# EAGLE library part SN74LVC2GU04DCKR (library Birdhouse)
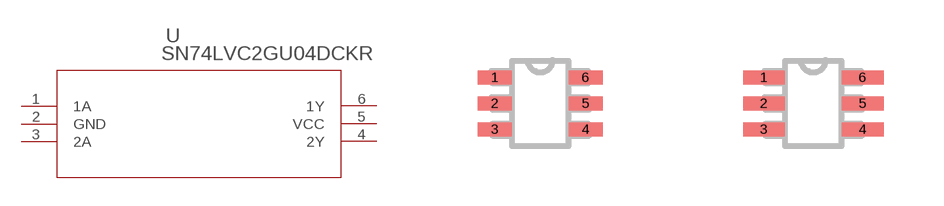
[diagram p10: symbol with the pads of DCK6; footprints DCK6, DCK6-M]

Designator prefix U

## SN74LVC2GU04DCKR (COPYRIGHT: Copyright (C) 2023 Ultra Librarian. All rights reserved.; DIGI-KEY_PART_NUMBER_1: 296-13277-1-ND; DIGI-KEY_PART_NUMBER_2: 296-13277-2-ND; DIGI-KEY_PART_NUMBER_3: 296-13277-6-ND; DIGI-KEY_PART_NUMBER_4: 2156-SN74LVC2GU04DCKR-ND; MANUFACTURER_PART_NUMBER: SN74LVC2GU04DCKR; MFR_NAME: Texas Instruments)  [DCK6]
1  1A  in
2  GND  pwr
3  2A  in
4  2Y  out
5  VCC  pwr
6  1Y  out

## SN74LVC2GU04DCKRDCK6-M (COPYRIGHT: Copyright (C) 2023 Ultra Librarian. All rights reserved.; DIGI-KEY_PART_NUMBER_1: 296-13277-1-ND; DIGI-KEY_PART_NUMBER_2: 296-13277-2-ND; DIGI-KEY_PART_NUMBER_3: 296-13277-6-ND; DIGI-KEY_PART_NUMBER_4: 2156-SN74LVC2GU04DCKR-ND; MANUFACTURER_PART_NUMBER: SN74LVC2GU04DCKR; MFR_NAME: Texas Instruments)  [DCK6-M]
Pads as for DCK6

## SN74LVC2GU04DCKRDCK6-L (COPYRIGHT: Copyright (C) 2023 Ultra Librarian. All rights reserved.; DIGI-KEY_PART_NUMBER_1: 296-13277-1-ND; DIGI-KEY_PART_NUMBER_2: 296-13277-2-ND; DIGI-KEY_PART_NUMBER_3: 296-13277-6-ND; DIGI-KEY_PART_NUMBER_4: 2156-SN74LVC2GU04DCKR-ND; MANUFACTURER_PART_NUMBER: SN74LVC2GU04DCKR; MFR_NAME: Texas Instruments)  [DCK6-L]
Pads as for DCK6

## Footprint DCK6 (pad centres in mm)
smd 0.845 x 0.355: 1 -1.134,0.65; 2 -1.134,0; 3 -1.134,-0.65; 4 1.134,-0.65; 5 1.134,0; 6 1.134,0.65

## Footprint DCK6-M (pad centres in mm)
smd 1.045 x 0.355: 1 -1.234,0.65; 2 -1.234,0; 3 -1.234,-0.65; 4 1.234,-0.65; 5 1.234,0; 6 1.234,0.65

## Footprint DCK6-L (pad centres in mm)
smd 0.645 x 0.305: 1 -1.034,0.65; 2 -1.034,0; 3 -1.034,-0.65; 4 1.034,-0.65; 5 1.034,0; 6 1.034,0.65